# Altium schematic symbol library ADV7125.Schlib: 1 symbol
Pins are listed as number, name and electrical type; pins without a type are passive.

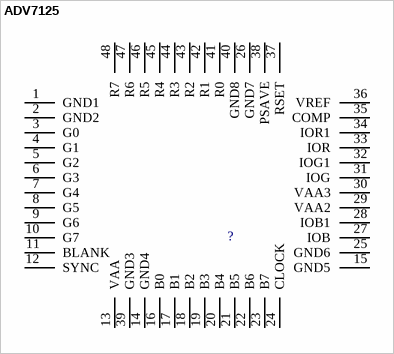
[diagram p0: symbol ADV7125]

## ADV7125
designator ?
footprint LFCSP48
pins: 1 GND1, 2 GND2, 3 G0, 4 G1, 5 G2, 6 G3, 7 G4, 8 G5, 9 G6, 10 G7, 11 BLANK, 12 SYNC, 13 VAA, 14 GND4, 15 GND5, 16 B0, 17 B1, 18 B2, 19 B3, 20 B4, 21 B5, 22 B6, 23 B7, 24 CLOCK, 25 GND6, 26 GND7, 27 IOB, 28 IOB1, 29 VAA2, 30 VAA3, 31 IOG, 32 IOG1, 33 IOR, 34 IOR1, 35 COMP, 36 VREF, 37 RSET, 38 PSAVE, 39 GND3, 40 GND8, 41 R0, 42 R1, 43 R2, 44 R3, 45 R4, 46 R5, 47 R6, 48 R7